# Altium footprint library 三电平变换器.PCBLIB: 98 footprints (part 1 of 7)
Each footprint in its own frame and in the unit in brackets; x right, y up, seen from the top. Pads: shape width x height; smd on the part's side, far side on the other; paste and mask are expansions set on the pad; w line width, h text height; cw(c..) or ccw(c..) is an arc to the next point about the centre after c.
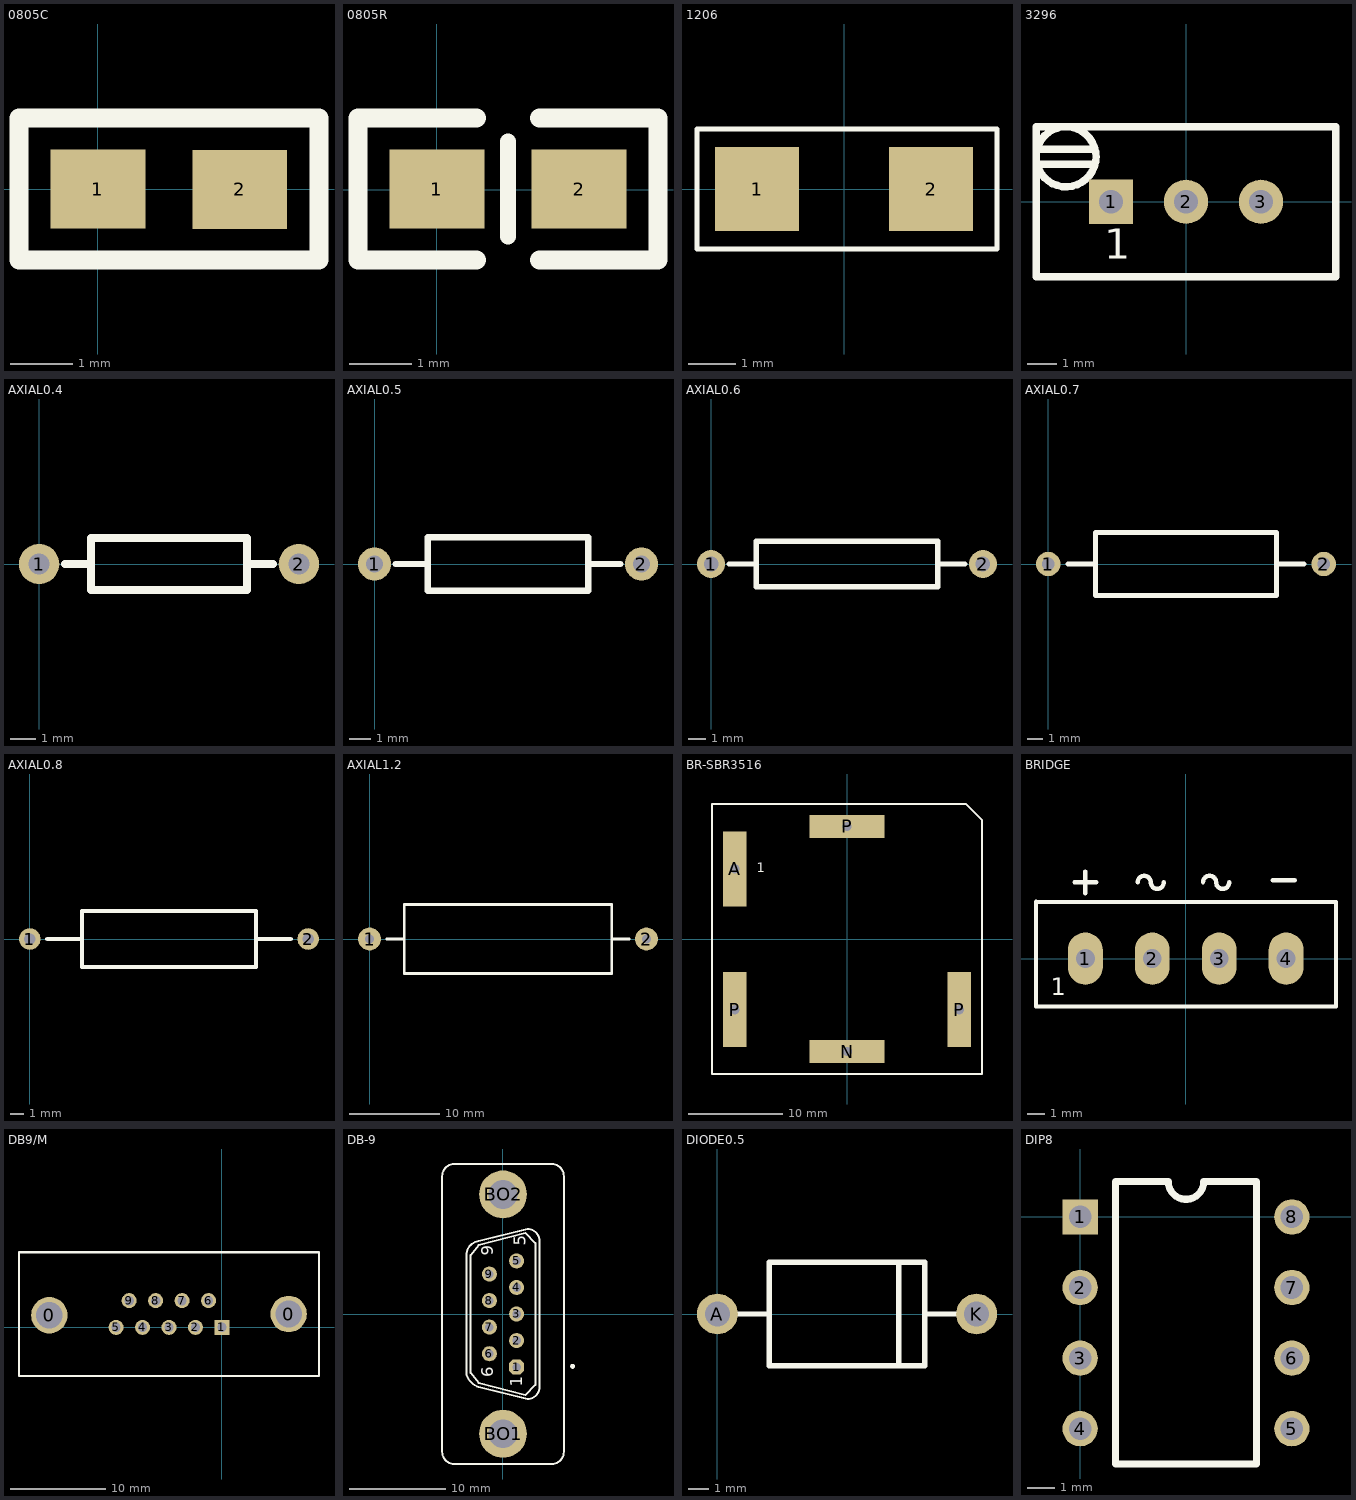
[diagram p0: the footprints below, top view; thin cyan lines are the x and y axes]

## 0805C [mil]
pads (2):
  rect 60x50 smd: 1(0.18,0.31) 2(90,0)
TopOverlay:
  lines w12: -49.82,-44.69 65.18,-44.69 140.18,-44.69 140.18,45.31 65.18,45.31 -49.82,45.31 -49.82,-44.69

## 0805R [mil]
pads (2):
  rect 60x50 smd: 1(0.18,0.33) 2(90.18,0.33)
TopOverlay:
  lines w10: 45.18,-29.67 45.18,30.33
  lines w12: 25.18,-44.67 -49.82,-44.67 -49.82,45.33 25.18,45.33 ; 65.18,-44.67 140.18,-44.67 140.18,45.33 65.18,45.33

## 1206 [mil]
pads (2):
  rect 70x70 smd: 1(-72.5,0.33) 2(72.5,0.33)
TopOverlay:
  lines w4: 107.5,-49.67 127.5,-49.67 127.5,50.33 117.5,50.33 -122.5,50.33 -122.5,0.33 -122.5,-49.67 117.5,-49.67

## 3296 [mm]
pads (3):
  rect 1.5x1.5 hole 0.8: 1(-2.54,0)
  round 1.5 hole 0.8: 2(0,0) 3(2.54,0)
TopOverlay:
  circle w0.254: c-4.064,1.524 r1.016
  lines w0.254: -4.953,1.27 -3.175,1.27 ; -4.953,1.778 -3.175,1.778 ; -5.08,-2.54 -5.08,2.54 5.08,2.54 5.08,-2.54 -5.08,-2.54
  text "1" at -2.769,-1.93 h1.02

## AXIAL0.4 [mil]
pads (2):
  round 62 hole 32: 1(0,0) 2(400,0)
TopOverlay:
  lines w12: 40,0 80,0 ; 320,0 360,0 ; 80,-40 80,40 320,40 320,-40 80,-40

## AXIAL0.5 [mil]
pads (2):
  round 62 hole 32: 1(0,0) 2(500,0)
TopOverlay:
  lines w12: 40,0 100,0 ; 400,0 460,0 ; 100,-50 400,-50 400,50 100,50 100,-50

## AXIAL0.6 [mil]
pads (2):
  round 62 hole 32: 1(0,0) 2(600,0)
TopOverlay:
  lines w12: 40,0 100,0 ; 500,0 560,0 ; 100,-50 500,-50 500,50 100,50 100,-50

## AXIAL0.7 [mil]
pads (2):
  round 62 hole 32: 1(0,0) 2(700,0)
TopOverlay:
  lines w12: 50,0 120,0 ; 580,0 650,0 ; 120,-80 120,80 580,80 580,-80 120,-80

## AXIAL0.8 [mil]
pads (2):
  round 62 hole 32: 1(0,0) 2(800,0)
TopOverlay:
  lines w12: 50,0 150,0 ; 650,0 750,0 ; 150,-80 150,80 650,80 650,-80 150,-80

## AXIAL1.2 [mil]
pads (2):
  round 100 hole 40: 1(0,0) 2(1200,0)
TopOverlay:
  lines w12: 75,0 150,0 ; 1050,0 1125,0 ; 150,-150 150,150 1050,150 1050,-150 150,-150

## BR-SBR3516 [mm] "三相不控整流桥"
pads (5):
  rect 2.5x8 hole 1: A(-11.989,7.489) P(-11.989,-7.523) P(11.989,-7.523)
  rect 8x2.5 hole 1: N(0.025,-11.993) P(0,12.01)
TopOverlay:
  lines w0.203: 11.684,14.396 12.713,14.396 14.4,12.708 14.4,-14.404 -14.4,-14.404 -14.4,14.396 9.652,14.396 11.697,14.396
  text "1" at -9.627,7.137 h1.02

## BRIDGE [mm]
pads (4):
  oval 2.032x3.048 hole 1.1: 1(-5.85,0.008) 2(-1.95,0.008) 3(1.95,0.008) 4(5.85,0.008)
TopOverlay:
  lines w0.254: -8.725,3.31 -8.725,-2.786 8.756,-2.786 8.756,3.31 -8.725,3.314 ; -6.484,4.453 -5.214,4.453 ; -5.849,3.818 -5.849,5.088 ; -2.801,4.453 cw(c-2.42,4.453) -2.039,4.453 ccw(c-1.658,4.453) -1.277,4.453 ; 1.009,4.453 cw(c1.39,4.453) 1.771,4.453 ccw(c2.152,4.453) 2.533,4.453 ; 5.08,4.572 6.35,4.572
  text "1" at -7.874,-2.134 h1.02

## DB9/M [mil]
pads (11):
  round 150 hole 110: 0(-711,50) 0(275,55)
  rect 62x62 hole 38: 1(0,0)
  round 62 hole 38: 2(-109,0) 3(-218,0) 4(-327,0) 5(-436,0) 6(-55,110) 7(-164,110) 8(-273,110) 9(-382,110)
TopOverlay:
  lines w8: -836,310 -836,-200 400,-200
  lines w10: -836,310 400,310 400,-200

## DB-9 [mil]
pads (11):
  oct 62x62 hole 35.43: 1(56.23,-217.92)
  round 62 hole 35.43: 2(56.23,-108.75) 3(56.23,0.42) 4(56.23,109.58) 5(56.23,218.75) 6(-55.43,-162.92) 7(-55.43,-53.75) 8(-55.43,55.42) 9(-55.43,164.58)
  round 196.85 hole 118.11: BO1(0.4,-492.08) BO2(0.4,492.08)
TopOverlay:
  circle w9.84: c286.54,-215 r4.92
  lines w8: -207.93,-616.25 200.4,-616.25 ccw(c200.4,-566.25) 250.4,-566.25 250.4,567.08 ccw(c200.4,567.08) 200.4,617.08 -199.6,617.08 ccw(c-199.6,567.08) -249.6,567.08 -249.6,-566.25 ccw(c-199.6,-566.25) -199.6,-616.25 ; -149.89,-249.05 ccw(c-74.6,-224.58) -106.8,-296.9 ; -149.85,250.32 cw(c-91.26,242.08) -99.5,300.67 ; -149.6,-249.58 -149.6,250.42 ; -99.6,-299.58 100.4,-349.58 ccw(c100.4,-299.58) 150.4,-299.58 150.4,300.42 ccw(c100.4,300.42) 100.4,350.42 -99.6,300.42 ; -132.93,-241.25 -132.93,242.08 -99.6,283.75 92.07,333.75 133.74,292.08 133.74,-291.25 92.07,-332.92 -99.6,-282.92 -132.93,-241.25
  text "6" at -39.6,-259.58 h50
  text "1" at 80.4,-299.58 h50
  text "5" at 94.2,281.42 h50
  text "9" at -39.6,240.42 h50

## DIODE0.5 [mm]
pads (2):
  round 2 hole 1.219: A(0,0) K(12.7,0)
TopOverlay:
  lines w0.254: 0,0 2.54,0 ; 8.89,-2.54 8.89,2.54 ; 10.16,0 12.7,0 ; 2.54,-2.54 10.16,-2.54 10.16,2.54 2.54,2.54 2.54,-2.54

## DIP8 [mil]
pads (8):
  rect 50x50 hole 32: 1(0,0)
  round 50 hole 32: 2(0,-100) 3(0,-200) 4(0,-300) 5(300,-300) 6(300,-200) 7(300,-100) 8(300,0)
TopOverlay:
  lines w10: 50,-350 50,50 125,50 ccw(c150,50) 175,50 250,50 250,-350 50,-350